# EAGLE library part PROG-HEADER_2X5 (library angrypig7-Connectors-Programming)
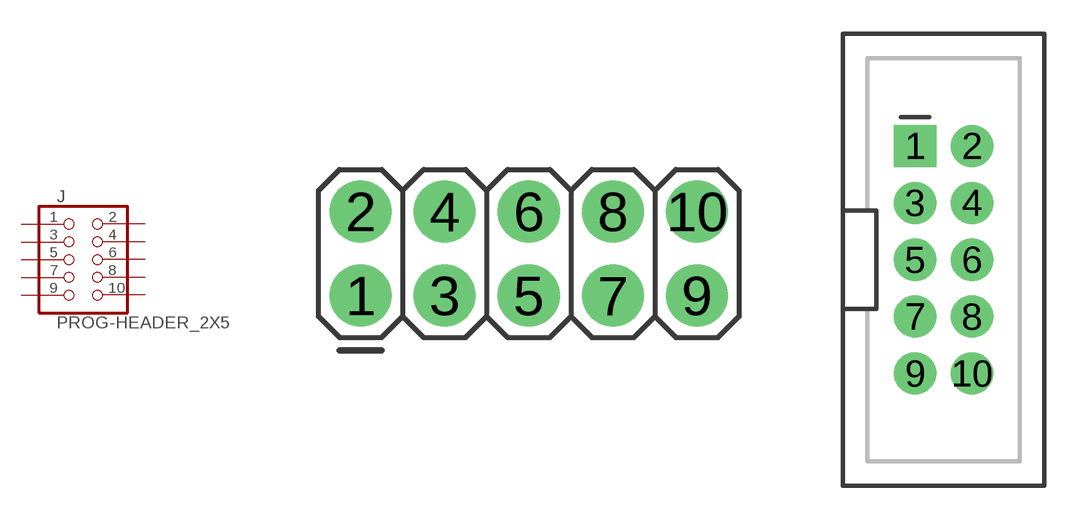
[diagram p5: symbol with the pads of 2X5-2.54MM; footprints 2X5-2.54MM, 2X5-2.54MM-SHROUDED]

Designator prefix J

## PROG-HEADER_2X5_PTH  [2X5-2.54MM]
1  1  pas
2  2  pwr
3  3  pas
4  4  pwr
5  5  pas
6  6  pwr
7  7  pas
8  8  pwr
9  9  pas
10  10  pwr

## PROG-HEADER_2X5_SHROUDED (PROD_ID: CONN-08671; SF_ID: PRT-08506)  [2X5-2.54MM-SHROUDED]
Pads as for 2X5-2.54MM

## PROG-HEADER_2X5_SMD  [2X5-2.54MM-SHROUDED_SMD]
Pads as for 2X5-2.54MM

## PROG-HEADER_2X5_1.27MM-SMD  [2X5-1.27MM_SMD]
Pads as for 2X5-2.54MM

## PROG-HEADER_2X5_1.27MM-PTH+SMD  [2X5-1.27MM_PTH+SMD]
1  1  pas
2  2  pwr
3  3  pas
4  4  pwr
5  5  pas
6  6  pwr
7  7  pas
8  8  pwr
9  9  pas
10  10  pwr
11  1  pas
12  2  pwr
13  3  pas
14  4  pwr
15  5  pas
16  6  pwr
17  7  pas
18  8  pwr
19  9  pas
20  10  pwr

## PROG-HEADER_2X5_1.27MM  [2X5-1.27MM_PTH]
Pads as for 2X5-2.54MM

## PROG-HEADER_2X5_2.00MM-SHROUDED  [2X5-2.00MM-SHROUDED]
Pads as for 2X5-2.54MM

## PROG-HEADER_2X5_1.27MM-SHROUDED_PTH_SMD  [2X5-1.27MM-SHROUDED_PTH+SMD]
Pads as for 2X5-1.27MM_PTH+SMD

## PROG-HEADER_2X5_1.27MM-SHROUDED_SMD  [2X5-1.27MM-SHROUDED_SMD]
Pads as for 2X5-2.54MM

## Footprint 2X5-2.54MM (pad centres in mm)
drill 1.016 pad 1.88: 1 0,0; 2 0,2.54; 3 2.54,0; 4 2.54,2.54; 5 5.08,0; 6 5.08,2.54; 7 7.62,0; 8 7.62,2.54; 9 10.16,0; 10 10.16,2.54

## Footprint 2X5-2.54MM-SHROUDED (pad centres in mm)
drill 1.016 pad 1.88 square: 1 -1.27,5.08
drill 1.016 pad 1.88: 2 1.27,5.08; 3 -1.27,2.54; 4 1.27,2.54; 5 -1.27,0; 6 1.27,0; 7 -1.27,-2.54; 8 1.27,-2.54; 9 -1.27,-5.08; 10 1.27,-5.08

## Footprint 2X5-2.54MM-SHROUDED_SMD (pad centres in mm)
smd 4.15 x 1: 1 -2.794,5.08; 2 2.794,5.08; 3 -2.794,2.54; 4 2.794,2.54; 5 -2.794,0; 6 2.794,0; 7 -2.794,-2.54; 8 2.794,-2.54; 9 -2.794,-5.08; 10 2.794,-5.08

## Footprint 2X5-1.27MM_SMD (pad centres in mm)
smd 0.76 x 2.4: 1 -2.54,-1.95; 2 -2.54,1.95; 3 -1.27,-1.95; 4 -1.27,1.95; 5 0,-1.95; 6 0,1.95; 7 1.27,-1.95; 8 1.27,1.95; 9 2.54,-1.95; 10 2.54,1.95

## Footprint 2X5-1.27MM_PTH+SMD (pad centres in mm)
smd 0.76 x 2.4: 1 -2.54,-1.95; 2 -2.54,1.95; 3 -1.27,-1.95; 4 -1.27,1.95; 5 0,-1.95; 6 0,1.95; 7 1.27,-1.95; 8 1.27,1.95; 9 2.54,-1.95; 10 2.54,1.95
drill 0.508 pad 1: 11 -2.54,-0.635; 12 -2.54,0.635; 13 -1.27,-0.635; 14 -1.27,0.635; 15 0,-0.635; 16 0,0.635; 17 1.27,-0.635; 18 1.27,0.635; 19 2.54,-0.635; 20 2.54,0.635

## Footprint 2X5-1.27MM_PTH (pad centres in mm)
drill 0.508 pad 1: 1 -2.54,-0.635; 2 -2.54,0.635; 3 -1.27,-0.635; 4 -1.27,0.635; 5 0,-0.635; 6 0,0.635; 7 1.27,-0.635; 8 1.27,0.635; 9 2.54,-0.635; 10 2.54,0.635

## Footprint 2X5-2.00MM-SHROUDED (pad centres in mm)
drill 0.8 square: 1 -1,4
drill 0.8: 2 1,4; 3 -1,2; 4 1,2; 5 -1,0; 6 1,0; 7 -1,-2; 8 1,-2; 9 -1,-4; 10 1,-4

## Footprint 2X5-1.27MM-SHROUDED_PTH+SMD (pad centres in mm)
drill 0.508 pad 1: 1 -2.54,-0.635; 2 -2.54,0.635; 3 -1.27,-0.635; 4 -1.27,0.635; 5 0,-0.635; 6 0,0.635; 7 1.27,-0.635; 8 1.27,0.635; 9 2.54,-0.635; 10 2.54,0.635
smd 0.76 x 2.4: 11 -2.54,-1.95; 12 -2.54,1.86; 13 -1.27,-1.95; 14 -1.27,1.86; 15 0,-1.95; 16 0,1.95; 17 1.27,-1.86; 18 1.27,1.95; 19 2.54,-1.86; 20 2.54,1.95

## Footprint 2X5-1.27MM-SHROUDED_SMD (pad centres in mm)
smd 0.76 x 2.4: 1 2.54,1.95; 2 2.54,-1.95; 3 1.27,1.95; 4 1.27,-1.95; 5 0,1.95; 6 0,-1.95; 7 -1.27,1.95; 8 -1.27,-1.95; 9 -2.54,1.95; 10 -2.54,-1.95